# Altium schematic symbol library MAX3355E.SchLib: 1 symbol
Pins are listed as number, name and electrical type; pins without a type are passive.

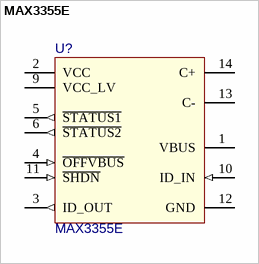
[diagram p0: symbol MAX3355E]

## MAX3355E
designator U?
MAX3355E ESD-Protected USB On-the-Go Charge Pump and Comparators; value: MAX3355E
footprint TSSOP-14 (Footprint not found)
pins: 1 VBUS (power), 2 VCC (power), 3 ID_OUT (out), 4 ~{OFFVBUS} (in), 5 ~{STATUS1} (out), 6 ~{STATUS2} (out), 9 VCC_LV (power), 10  ID_IN (in), 11 ~{SHDN} (in), 12 GND (power), 13  C-, 14  C+